# EAGLE library part SL-2341 (library led7s_SL-2xxx)
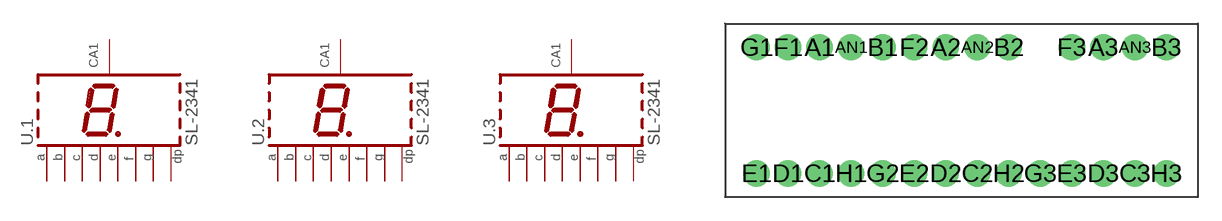
[diagram p0: symbol with the pads of SL-2341; footprint SL-2341]

Designator prefix -; gates .1=7SEG .2=7SEG .3=7SEG

## SL-2341  [SL-2341]
A1  .1:A1  pas
A2  .2:A1  pas
A3  .3:A1  pas
AN1  .1:AN1  pas
AN2  .2:AN1  pas
AN3  .3:AN1  pas
B1  .1:B1  pas
B2  .2:B1  pas
B3  .3:B1  pas
C1  .1:C1  pas
C2  .2:C1  pas
C3  .3:C1  pas
D1  .1:D1  pas
D2  .2:D1  pas
D3  .3:D1  pas
E1  .1:E1  pas
E2  .2:E1  pas
E3  .3:E1  pas
F1  .1:F1  pas
F2  .2:F1  pas
F3  .3:F1  pas
G1  .1:G1  pas
G2  .2:G1  pas
G3  .3:G1  pas
H1  .1:H1  pas
H2  .2:H1  pas
H3  .3:H1  pas

## Footprint SL-2341 (pad centres in mm)
drill 0.8 pad 1.676: A1 -9,4; A2 -1,4; A3 9,4; AN1 -7,4; AN2 1,4; AN3 11,4; B1 -5,4; B2 3,4; B3 13,4; C1 -9,-4; C2 1,-4; C3 11,-4; D1 -11,-4; D2 -1,-4; D3 9,-4; E1 -13,-4; E2 -3,-4; E3 7,-4; F1 -11,4; F2 -3,4; F3 7,4; G1 -13,4; G2 -5,-4; G3 5,-4; H1 -7,-4; H2 3,-4; H3 13,-4